# Altium footprint library FootprintLib.PcbLib: 194 footprints (part 4 of 13)
Each footprint in its own frame and in the unit in brackets; x right, y up, seen from the top. Pads: shape width x height; smd on the part's side, far side on the other; paste and mask are expansions set on the pad; w line width, h text height; cw(c..) or ccw(c..) is an arc to the next point about the centre after c.
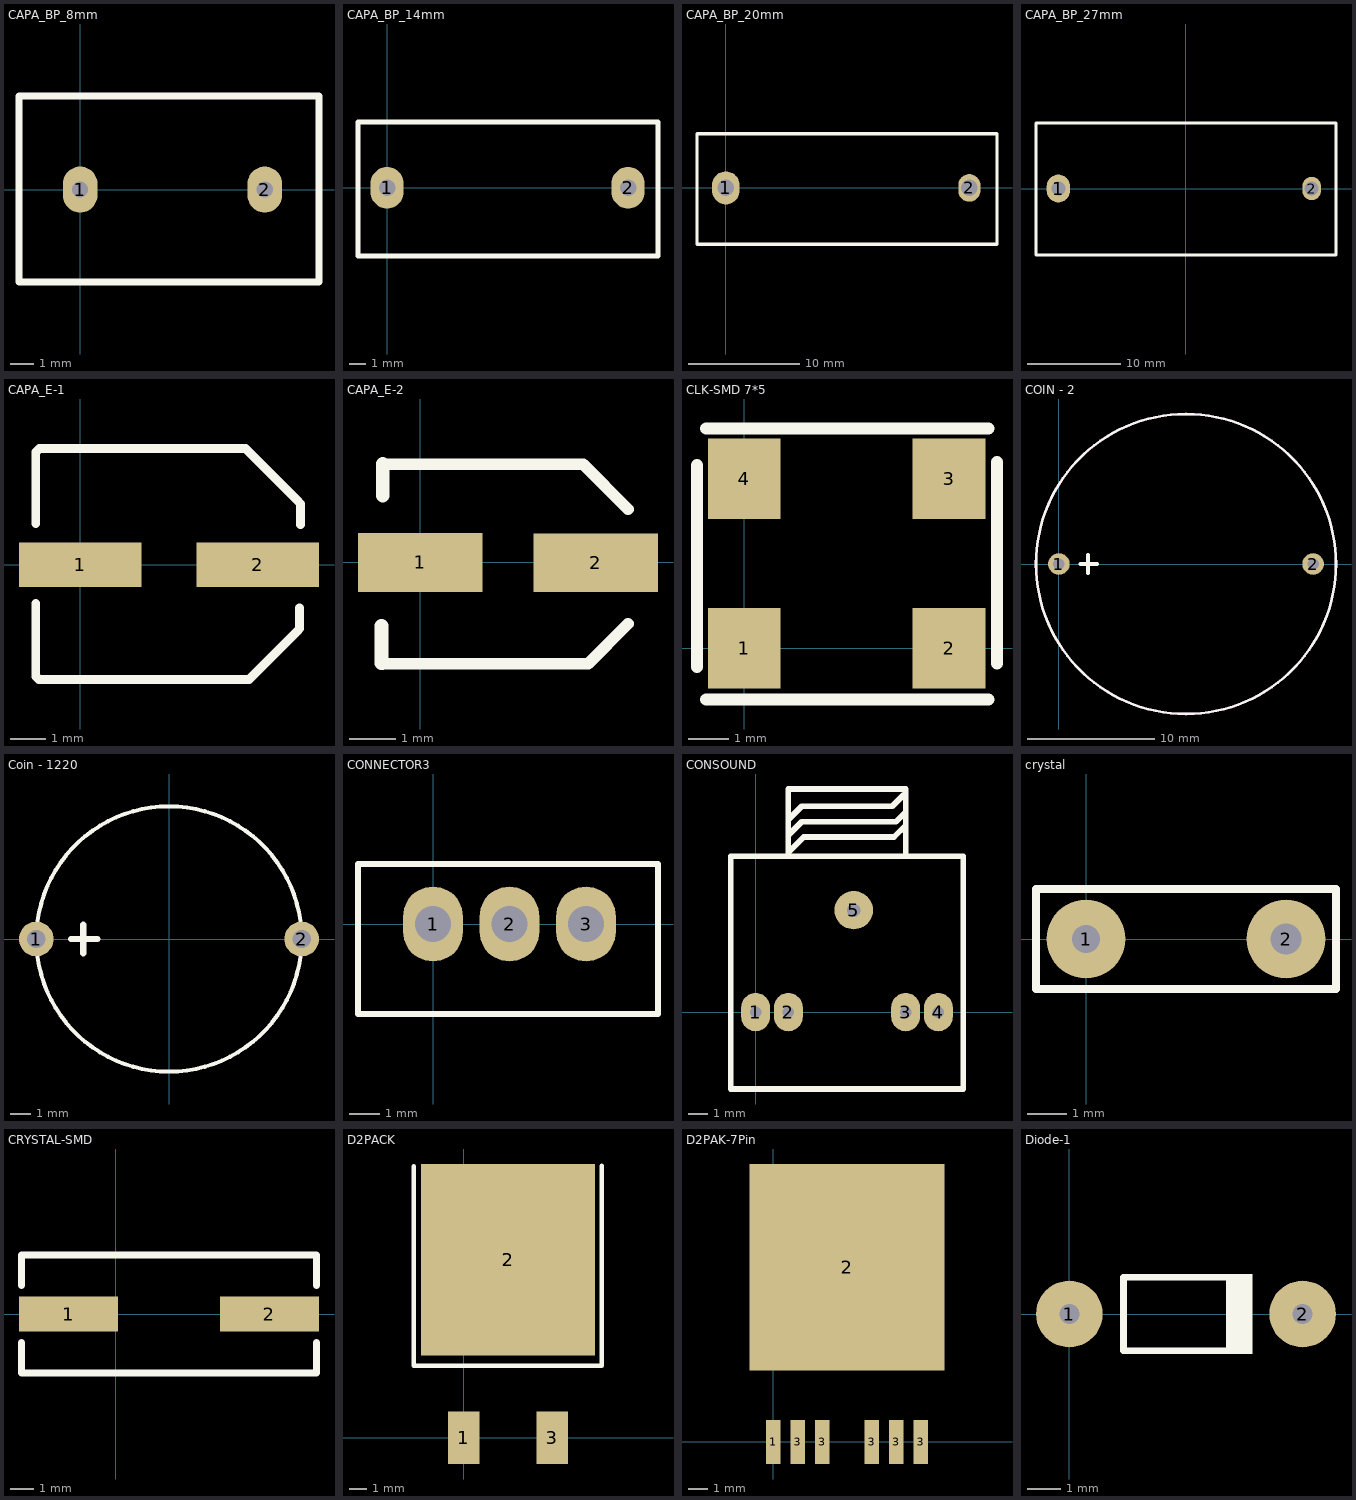
[diagram p3: the footprints below, top view; thin cyan lines are the x and y axes]

## CAPA_BP_8mm [mm]
pads (2):
  oval 1.5x2 hole 0.7: 1(0,0) 2(8,0)
Top Overlay:
  lines w0.3: -2.65,-4 10.35,-4 10.35,4.05 -2.65,4.05 -2.65,-3.95

## CAPA_BP_14mm [mm]
pads (2):
  oval 2x2.5 hole 1: 1(0,0) 2(14.5,0)
Top Overlay:
  lines w0.3: -1.75,-4.1 16.3,-4.1 16.3,3.95 -1.75,3.95 -1.75,-4.05

## CAPA_BP_20mm [mm]
pads (2):
  oval 2.5x3 hole 1.5: 1(0,0)
  oval 2x2.5 hole 1.5: 2(22,0)
Top Overlay:
  lines w0.3: -2.6,-5.1 24.4,-5.1 ; -2.6,-5.05 -2.6,4.9 24.5,4.9 24.5,-5.1

## CAPA_BP_27mm [mm]
pads (2):
  oval 2.5x3 hole 1.5: 1(-13.6,0)
  oval 2x2.5 hole 1.5: 2(13.5,0)
Top Overlay:
  lines w0.3: -16,-7.1 16,-7.1 ; -16,-7.05 -16,7 16.1,7 16.1,-7.1

## CAPA_E-1 [mm]
pads (2):
  rect 3.5x1.27 smd: 1(0,0) 2(5.08,0)
Top Overlay:
  lines w0.254: -1.27,-3.175 -1.27,-1.118 ; -1.27,1.168 -1.27,3.15 ; -1.268,-3.2 -1.184,-3.284 -0.96,-3.284 4.332,-3.284 ; -1.268,3.216 -1.168,3.316 -0.968,3.316 4.432,3.316 ; 3.932,-3.284 4.52,-3.284 4.832,-3.284 6.232,-1.884 ; 4.132,3.316 4.732,3.316 6.232,1.816 ; 6.274,-1.829 6.274,-1.245 ; 6.299,1.143 6.299,1.727

## CAPA_E-2 [mm]
pads (2):
  rect 2.7x1.27 smd: 1(0,0) 2(3.802,-0.008)
Top Overlay:
  lines w0.254: -0.825,-2.2 3.638,-2.192 4.502,-1.328 ; -0.8,2.125 3.53,2.128 4.502,1.156
  lines w0.3: -0.838,-2.184 -0.838,-1.372 ; -0.813,1.448 -0.813,2.134

## CLK-SMD 7*5 [mm]
pads (4):
  rect 1.8x2 smd: 1(0,0) 2(5.08,0) 3(5.08,4.2) 4(0,4.2)
Top Overlay:
  lines w0.3: -1.17,-0.46 -1.17,4.54 ; -0.94,-1.27 6.06,-1.27 ; -0.94,5.45 6.06,5.45 ; 6.27,-0.38 6.27,4.62

## COIN - 2 [mm]
height 8.5
pads (2):
  round 1.7 hole 0.9: 1(0,0) 2(20,0)
Top Overlay:
  circle w0.2: c10,0 r11.8
  lines w0.3: 1.7,0 3,0 ; 2.3,-0.7 2.3,0.7
Mechanical 15:
  circle w0.2: c10,0 r11.8

## Coin - 1220 [mm]
height 3
pads (2):
  round 1.7 hole 0.9: 1(-6.5,0) 2(6.5,0)
Top Overlay:
  circle w0.2: c0,0 r6.5
  lines w0.3: -4.8,0 -3.5,0 ; -4.2,-0.7 -4.2,0.7

## CONNECTOR3 [mm]
pads (3):
  oval 2x2.5 hole 1.2: 1(0,0) 2(2.55,0) 3(5.1,0)
Top Overlay:
  lines w0.2: -2.5,-3 7.5,-3 7.5,2 -2.5,2 -2.5,-3

## CONSOUND [mm]
pads (5):
  oval 1.5x2 hole 0.6: 1(0,0) 2(1.7,0) 3(7.8,0) 4(9.5,0)
  round 2 hole 0.7: 5(5.1,5.3)
Top Overlay:
  lines w0.3: 1.7,8.1 1.7,11.6 7.8,11.6 7.8,8.1 ; 1.7,8.3 2.5,9.1 7.2,9.1 7.8,9.7 ; 1.7,9.2 2.4,9.9 ; 1.7,10 2.4,10.7 2.7,10.7 7.1,10.7 7.7,11.3 ; 2.4,9.9 7.3,9.9 ; 2.4,9.9 7.3,9.9 ; 7.3,9.9 7.8,10.4 7.3,9.9 ; -1.3,-4 10.8,-4 10.8,8.1 -1.3,8.1 -1.3,-4

## crystal [mm] "crystal"
pads (2):
  round 2 hole 0.7: 1(0,0)
  round 2 hole 0.8: 2(5.08,0)
Top Overlay:
  lines w0.2: -1.27,-1.27 -1.27,1.27 6.35,1.27 6.35,-1.27 -1.27,-1.27

## CRYSTAL-SMD [mm]
height 3
pads (2):
  rect 4.2x1.5 smd: 1(-2,0) 2(6.5,0)
Top Overlay:
  lines w0.3: -4,-1.2 -4,-2.5 8.5,-2.5 8.5,-1.2 ; -4,1.2 -4,2.5 8.5,2.5 8.5,1.2

## D2PACK [mm]
pads (3):
  rect 1.78x3 smd: 1(0,0) 3(5.08,0)
  rect 10x11 smd: 2(2.54,10.22)
Top Overlay:
  lines w0.254: -2.87,15.596 -2.87,4.14 7.925,4.14 7.925,15.621

## D2PAK-7Pin [mm] "Mosfet"
pads (7):
  rect 0.75x2.285 smd: 1(0,0) 3(1.27,0) 3(2.54,0) 3(5.08,0) 3(6.35,0) 3(7.62,0)
  rect 10.095x10.695 smd: 2(3.81,9.042)

## Diode-1 [mm]
pads (2):
  round 2 hole 0.6: 1(0,0) 2(7,0)
Top Overlay:
  rectangle: 4.7,-1.2 5.5,1.2
  lines w0.2: 5.33,-0.8 5.33,-1.1 1.625,-1.1 1.625,1.1 5.3,1.1 5.36,1.04 5.36,0.8